# Altium footprint library MYBSP.PcbLib: 1 footprints
Each footprint in its own frame and in the unit in brackets; x right, y up, seen from the top. Pads: shape width x height; smd on the part's side, far side on the other; paste and mask are expansions set on the pad; w line width, h text height; cw(c..) or ccw(c..) is an arc to the next point about the centre after c.
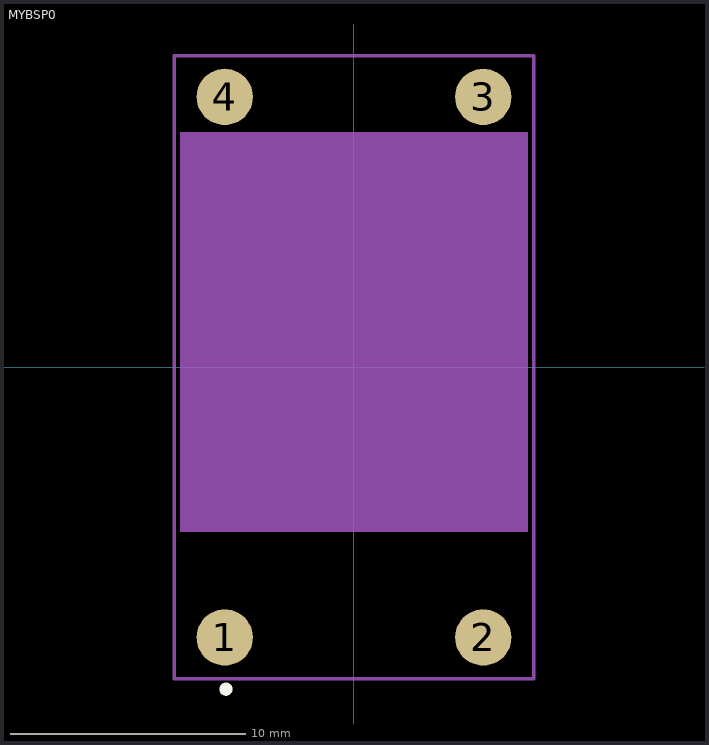
[diagram p0: the footprint, top view; thin cyan lines are the x and y axes]

## MYBSP0 [mm] "MURATA POE DCDC CONVERTER"
pads (4):
  round 2.4 smd: 1(-5.5,-11.5) 2(5.5,-11.5) 3(5.5,11.5) 4(-5.5,11.5)
Top Overlay:
  circle w0.305: c-5.45,-13.7 r0.127
Mechanical 13:
  lines w0.15: -7.65,-13.25 -7.65,13.25 7.65,13.25 7.65,-13.25 -7.65,-13.25
Mechanical 16:
  region: 7.4,-7 -7.4,-7 -7.4,10 7.4,10
3D body "step_temp.STEP": height 6.8, standoff 0, extent -7.4,-13 7.4,13